# Altium footprint library Securifi_PcbLib.PcbLib: 3 footprints
Each footprint in its own frame and in the unit in brackets; x right, y up, seen from the top. Pads: shape width x height; smd on the part's side, far side on the other; paste and mask are expansions set on the pad; w line width, h text height; cw(c..) or ccw(c..) is an arc to the next point about the centre after c.
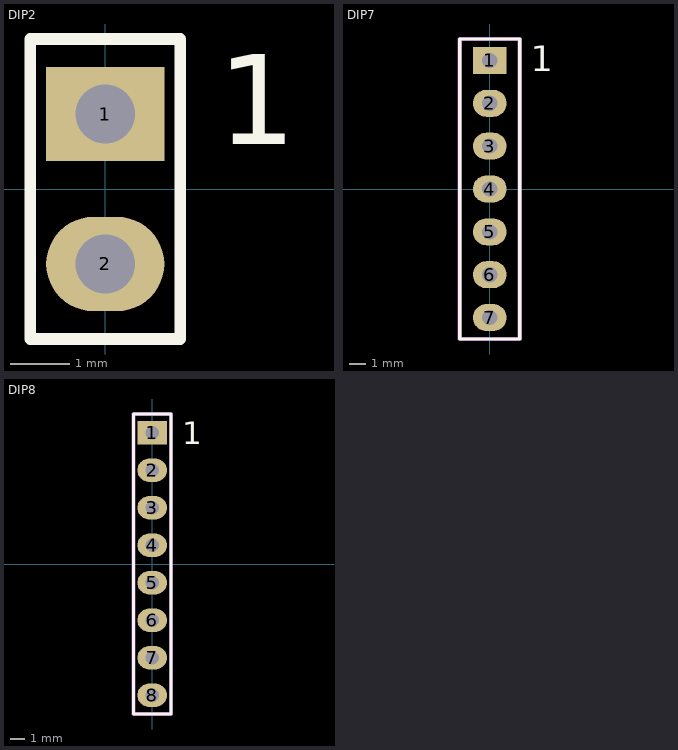
[diagram p0: the footprints below, top view; thin cyan lines are the x and y axes]

## DIP2 [mm]
pads (2):
  rect 2x1.6 hole 1: 1(0,1.27)
  oval 2x1.6 hole 1: 2(0,-1.27)
Top Overlay:
  lines w0.2: -1.27,-2.54 -1.27,2.54 1.27,2.54 1.27,-2.54 -1.27,-2.54
  text "1" at 1.905,0.762 h1.52
3D body "022052021.stp": height 6.31, standoff -3.14, extent -1.276,-2.413 8.896,2.413

## DIP7 [mm]
pads (7):
  rect 2x1.6 hole 0.9: 1(0,7.62)
  oval 2x1.6 hole 0.9: 2(0,5.08) 3(0,2.54) 4(0,0) 5(0,-2.54) 6(0,-5.08) 7(0,-7.62)
Top Overlay:
  lines w0.2: -1.778,-8.89 -1.778,8.89 1.778,8.89 1.778,-8.89 -1.778,-8.89
  text "1" at 2.413,6.985 h1.52
Mechanical 2:
  lines w0.254: -1.778,-8.89 -1.778,8.89 1.778,8.89 1.778,-8.89 -1.778,-8.89
  text "'.Designator'" at 0.254,0.762 h1.52
3D body "c-534237-5-s-3d.stp": height 8.64, standoff -2.92, extent -1.778,-8.89 1.778,8.89

## DIP8 [mm]
pads (8):
  rect 2x1.6 hole 0.9: 1(0,8.89)
  oval 2x1.6 hole 0.9: 2(0,6.35) 3(0,3.81) 4(0,1.27) 5(0,-1.27) 6(0,-3.81) 7(0,-6.35) 8(0,-8.89)
Top Overlay:
  lines w0.2: -1.27,-10.16 -1.27,10.16 1.27,10.16 1.27,-10.16 -1.27,-10.16
  text "1" at 2.032,8.128 h1.52
Mechanical 2:
  lines w0.254: -1.27,-10.16 1.27,-10.16 1.27,10.16 -1.27,10.16 -1.27,-10.16
  text "'.Designator'" at 0.254,0.762 h1.52
3D body "c-215297-8-d-3d.stp": height 2.89, standoff -7.11, extent -1.27,-10.16 1.25,10.16